# Altium schematic symbol library lm5160qpwprq1.SchLib: 1 symbol
Pins are listed as number, name and electrical type; pins without a type are passive.

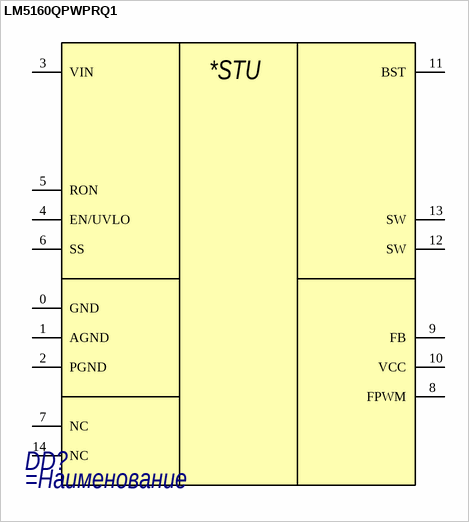
[diagram p0: symbol LM5160QPWPRQ1]

## LM5160QPWPRQ1
designator DD?
=Описание
pins: 0 GND, 1 AGND, 2 PGND, 3 VIN, 4 EN/UVLO, 5 RON, 6 SS, 7 NC, 8 FPWM, 9 FB, 10 VCC, 11 BST, 12 SW, 13 SW, 14 NC
text: *STU